# Altium schematic symbol library XT30PB.SchLib: 1 symbol
Pins are listed as number, name and electrical type; pins without a type are passive.

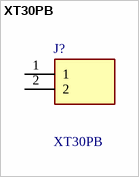
[diagram p0: symbol XT30PB]

## XT30PB
designator J?
Mini XT60 XT30 Connector for RC Multirotor Racing Drone Quadcopter; Manufacturer_Name: Amass; Geometry.Height: 10.7mm; Manufacturer_Part_Number: XT30PB; Mouser Part Number: *; Mouser Price/Stock: *; Arrow Part Number: *; Arrow Price/Stock: *; Datasheet Link: https://www.tme.eu/Document/4acc913878197f8c2e30d4b8cdc47230/XT30UPB%20SPEC.pdf
footprint XT30PB
pins: 1, 2